# EAGLE library part 66200811122 (library Wurth_Elektronik_Electromechanic_Wire_to_Board_Connectors_rev15c)
WR-MPC3 3.00mm Male Single Row Vertical Header, 8 Pins=>Code : Con_WTB_MPC3_1_PCB_66200811122 <http://katalog.we-online.de/media/thumbs2/eican/thb_Con_WTB_MPC3_1_PCB_6620xx11122_pf2.jpg> Details see: http://katalog.we-online.de/en/em/662_0xx_111_22 Created 2014-06-06, Karrer Zheng 2014 (C) Würth Elektronik
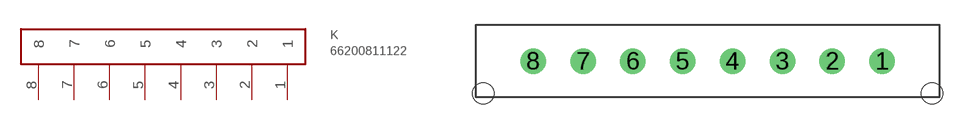
[diagram p337: symbol with the pads of 66200811122; footprint 66200811122]

Designator prefix K

## 66200811122  [66200811122]
1  1
2  2
3  3
4  4
5  5
6  6
7  7
8  8

## Footprint 66200811122 (pad centres in mm)
WR-MPC3 3.00mm Male Single Row Vertical Header, 8 Pins
drill 1.02: 1 1.5,0; 2 -1.5,0; 3 -4.5,0; 4 -7.5,0; 5 -10.5,0; 6 -13.5,0; 7 -16.5,0; 8 -19.5,0
hole 1.27 at 4.5,-1.96
hole 1.27 at -22.5,-1.96